# EAGLE library part AVR-ISP (library Jim)
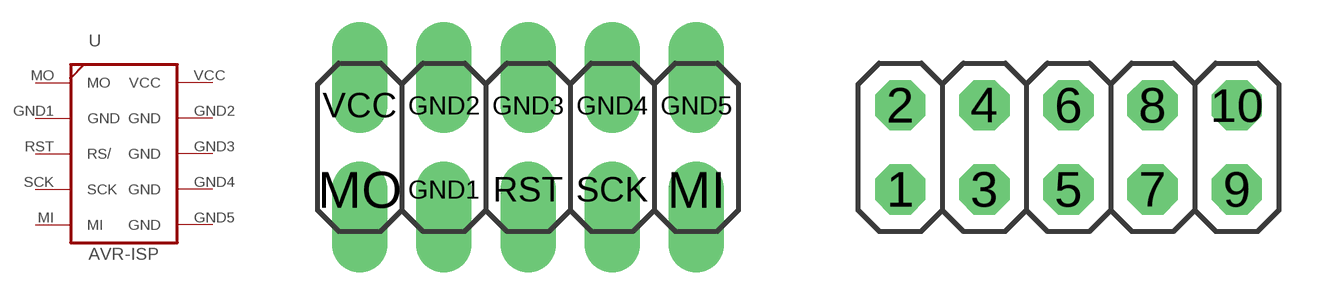
[diagram p4: symbol with the pads of 2X5; footprints 2X5, 2X05]

Designator prefix -

## AVR-ISP2X5  [2X5]
GND1  GND  pwr
GND2  GND  pwr
GND3  GND  pwr
GND4  GND  pwr
GND5  GND  pwr
MI  MI
MO  MO
RST  RS/
SCK  SCK
VCC  VCC  pwr

## AVR-ISPHOLES  [2X05]
1  MO
2  VCC  pwr
3  GND  pwr
4  GND  pwr
5  RS/
6  GND  pwr
7  SCK
8  GND  pwr
9  MI
10  GND  pwr

## AVR-ISP2X5SMD  [2X5SMD]
GND@3  GND  pwr
GND@4  GND  pwr
GND@6  GND  pwr
GND@8  GND  pwr
GND@10  GND  pwr
MISO  MI
MOSI  MO
RESETBAR  RS/
SCK  SCK
VCC  VCC  pwr

## Footprint 2X5 (pad centres in mm)
drill 0.5 pad 1.676 offset: GND1 -2.54,-1.27; GND2 -2.54,1.27; GND3 0,1.27; GND4 2.54,1.27; GND5 5.08,1.27; MI 5.08,-1.27; MO -5.08,-1.27; RST 0,-1.27; SCK 2.54,-1.27; VCC -5.08,1.27

## Footprint 2X05 (pad centres in mm)
drill 1.016 octagon: 1 -5.08,-1.27; 2 -5.08,1.27; 3 -2.54,-1.27; 4 -2.54,1.27; 5 0,-1.27; 6 0,1.27; 7 2.54,-1.27; 8 2.54,1.27; 9 5.08,-1.27; 10 5.08,1.27

## Footprint 2X5SMD (pad centres in mm)
smd 1.27 x 3.81: GND@3 -2.54,-2.54; GND@4 -2.54,2.54; GND@6 0,2.54; GND@8 2.54,2.54; GND@10 5.08,2.54; MISO 5.08,-2.54; MOSI -5.08,-2.54; RESETBAR 0,-2.54; SCK 2.54,-2.54; VCC -5.08,2.54